# EAGLE library part 15EDGVC-3.5-12P (library doz)
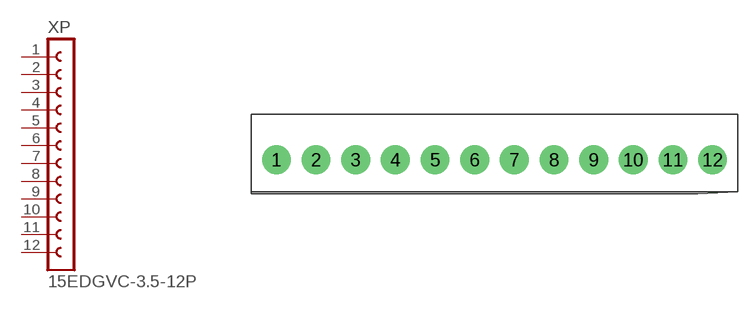
[diagram p11: symbol with the pads of 15EDGVC-3.5-12P; footprint 15EDGVC-3.5-12P]

Designator prefix XP

## 15EDGVC-3.5-12P  [15EDGVC-3.5-12P]
1  1  pas
2  2  pas
3  3  pas
4  4  pas
5  5  pas
6  6  pas
7  7  pas
8  8  pas
9  9  pas
10  10  pas
11  11  pas
12  12  pas

## Footprint 15EDGVC-3.5-12P (pad centres in mm)
drill 1.4 pad 2.54: 1 -19.383,-0.008; 2 -15.883,-0.008; 3 -12.383,-0.008; 4 -8.883,-0.008; 5 -5.383,-0.008; 6 -1.883,-0.008; 7 1.617,-0.008; 8 5.117,-0.008; 9 8.617,-0.008; 10 12.117,-0.008; 11 15.617,-0.008; 12 19.117,-0.008